# Altium footprint library PcbLib1.PcbLib: 32 footprints (part 2 of 2)
Each footprint in its own frame and in the unit in brackets; x right, y up, seen from the top. Pads: shape width x height; smd on the part's side, far side on the other; paste and mask are expansions set on the pad; w line width, h text height; cw(c..) or ccw(c..) is an arc to the next point about the centre after c.
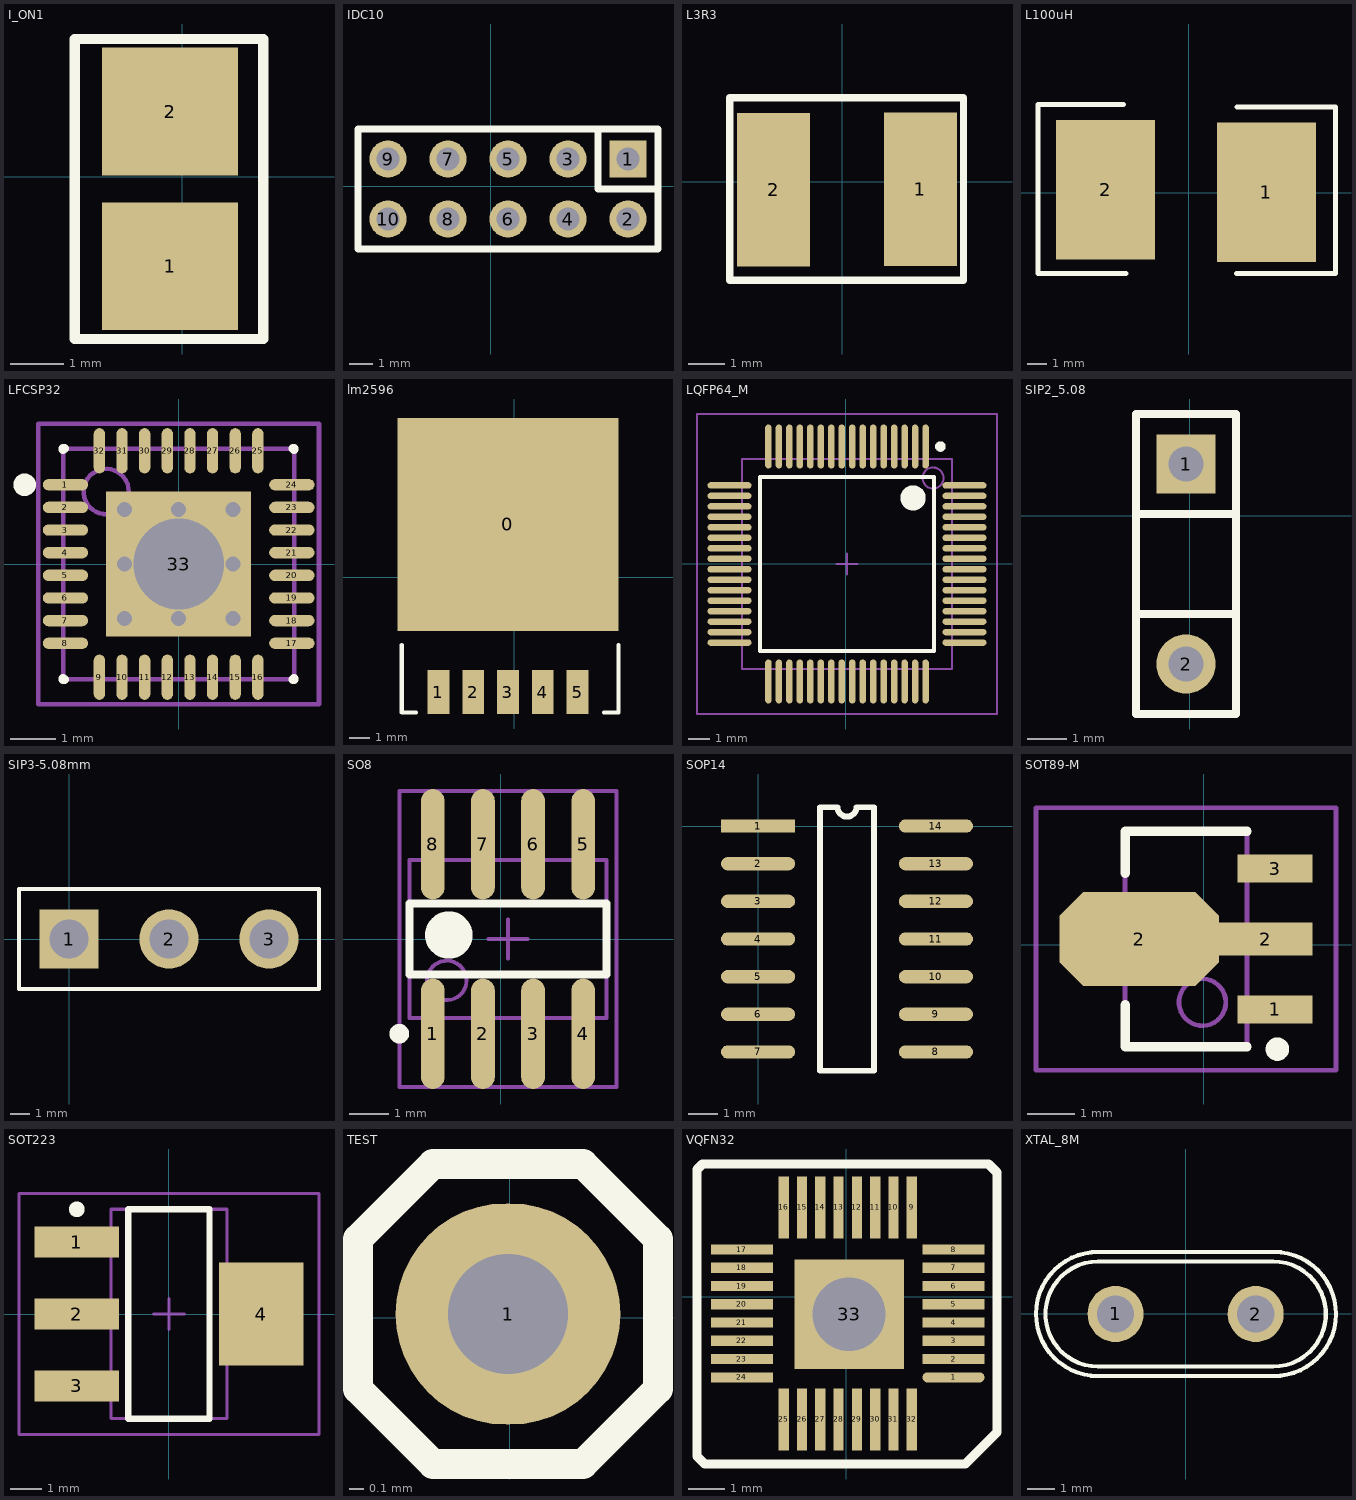
[diagram p1: the footprints below, top view; thin cyan lines are the x and y axes]

## I_ON1 [mil]
pads (2):
  rect 101.26x95 smd: 1(-9.23,-66.67) 2(-9.23,48.29)
Top Overlay:
  lines w7.8: -80,-120.77 -80,102.23 60,102.23 60,-120.77 -80,-120.77

## IDC10 [mil]
pads (10):
  rect 62x62 hole 38: 1(229,45)
  round 62 hole 38: 2(229,-55) 3(129,45) 4(129,-55) 5(29,45) 6(29,-55) 7(-71,45) 8(-71,-55) 9(-171,45) 10(-171,-55)
Top Overlay:
  lines w12: 179,95 179,-5 279,-5 ; -221,-105 -221,95 279,95 279,-105 -221,-105

## L3R3 [mm]
pads (2):
  rect 2x4.2 smd: 1(2.142,-0.213) 2(-1.878,-0.223)
Top Overlay:
  lines w0.2: -3.078,-2.703 -3.078,2.297 3.322,2.297 3.322,-0.203 3.322,-2.703 -3.078,-2.703

## L100uH [mm]
pads (2):
  rect 5x7 smd: 1(3.912,0.025) 2(-4.184,0.152)
Top Overlay:
  lines w0.254: -3.277,4.445 -7.595,4.445 -7.595,-4.064 -3.15,-4.064 ; 2.413,-4.064 7.391,-4.064 7.391,4.318 2.438,4.318

## LFCSP32 [mm] "QFN, 32-Leads, Body 5.1x5.1mm (max), Pitch 0.50mm, IPC Medium Density"
height 0.75
pads (33):
  oval 1x0.25 smd: 1(-2.5,1.75) 2(-2.5,1.25) 3(-2.5,0.75) 4(-2.5,0.25) 5(-2.5,-0.25) 6(-2.5,-0.75) 7(-2.5,-1.25) 8(-2.5,-1.75) 17(2.5,-1.75) 18(2.5,-1.25) 19(2.5,-0.75) 20(2.5,-0.25) 21(2.5,0.25) 22(2.5,0.75) 23(2.5,1.25) 24(2.5,1.75)
  oval 0.25x1 smd: 9(-1.75,-2.5) 10(-1.25,-2.5) 11(-0.75,-2.5) 12(-0.25,-2.5) 13(0.25,-2.5) 14(0.75,-2.5) 15(1.25,-2.5) 16(1.75,-2.5) 25(1.75,2.5) 26(1.25,2.5) 27(0.75,2.5) 28(0.25,2.5) 29(-0.25,2.5) 30(-0.75,2.5) 31(-1.25,2.5) 32(-1.75,2.5)
  rect 3.2x3.2 smd: 33(0,0)
via 1.2,-1.2 diameter 0.66 hole 0.33
via 0,-1.2 diameter 0.66 hole 0.33
via -1.2,-1.2 diameter 0.66 hole 0.33
via 1.2,0 diameter 0.66 hole 0.33
via 0,0 diameter 3 hole 2
via -1.2,0 diameter 0.66 hole 0.33
via 1.2,1.2 diameter 0.66 hole 0.33
via 0,1.2 diameter 0.66 hole 0.33
via -1.2,1.2 diameter 0.66 hole 0.33
Top Overlay:
  circle w0.25: c-3.4,1.75 r0.125
  lines w0.2: -2.55,-2.525 -2.55,-2.55 -2.525,-2.55 ; -2.55,2.525 -2.55,2.55 -2.525,2.55 ; 2.525,-2.55 2.55,-2.55 2.55,-2.525 ; 2.525,2.55 2.55,2.55 2.55,2.525
Mechanical 13:
  circle w0.1: c-1.6,1.6 r0.5
  lines w0.1: -2.55,-2.55 2.55,-2.55 2.55,2.55 -2.55,2.55 -2.55,-2.55
Mechanical 15:
  lines w0.1: -0.5,0 0.5,0 ; 0,-0.5 0,0.5 ; -3.1,-3.1 3.1,-3.1 3.1,3.1 -3.1,3.1 -3.1,-3.1
3D body: height 0.75, standoff 0.03, extent -2.55,-2.55 2.55,2.55

## lm2596 [mm]
pads (6):
  rect 10.8x10.41 smd: 0(-0.301,2.587)
  rect 1.07x2.15 smd: 1(-3.701,-5.613) 2(-2.001,-5.613) 3(-0.301,-5.613) 4(1.399,-5.613) 5(3.099,-5.613)
Top Overlay:
  lines w0.203: -5.501,-3.313 -5.501,-6.613 -4.801,-6.613 ; 4.399,-6.613 5.099,-6.613 5.099,-3.313

## LQFP64_M [mm]
pads (64):
  oval 0.3x2.1 smd: 1(3.81,5.588) 2(3.31,5.588) 3(2.81,5.588) 4(2.31,5.588) 5(1.81,5.588) 6(1.31,5.588) 7(0.81,5.588) 8(0.31,5.588) 9(-0.19,5.588) 10(-0.69,5.588) 11(-1.19,5.588) 12(-1.69,5.588) 13(-2.19,5.588) 14(-2.69,5.588) 15(-3.19,5.588) 16(-3.69,5.588) 33(-3.69,-5.612) 34(-3.19,-5.612) 35(-2.69,-5.612) 36(-2.19,-5.612) 37(-1.69,-5.612) 38(-1.19,-5.612) 39(-0.69,-5.612) 40(-0.19,-5.612) 41(0.31,-5.612) 42(0.81,-5.612) 43(1.31,-5.612) 44(1.81,-5.612) 45(2.31,-5.612) 46(2.81,-5.612) 47(3.31,-5.612) 48(3.81,-5.612)
  oval 2.1x0.3 smd: 17(-5.54,3.738) 18(-5.54,3.238) 19(-5.54,2.738) 20(-5.54,2.238) 21(-5.54,1.738) 22(-5.54,1.238) 23(-5.54,0.738) 24(-5.54,0.238) 25(-5.54,-0.262) 26(-5.54,-0.762) 27(-5.54,-1.262) 28(-5.54,-1.762) 29(-5.54,-2.262) 30(-5.54,-2.762) 31(-5.54,-3.262) 32(-5.54,-3.762) 49(5.66,-3.762) 50(5.66,-3.262) 51(5.66,-2.762) 52(5.66,-2.262) 53(5.66,-1.762) 54(5.66,-1.262) 55(5.66,-0.762) 56(5.66,-0.262) 57(5.66,0.238) 58(5.66,0.738) 59(5.66,1.238) 60(5.66,1.738) 61(5.66,2.238) 62(5.66,2.738) 63(5.66,3.238) 64(5.66,3.738)
Top Overlay:
  circle w0.6: c3.21,3.138 r0.3
  circle w0.25: c4.51,5.588 r0.125
  lines w0.2: -4.09,-4.162 -4.09,4.138 4.21,4.138 4.21,-4.162 -4.09,-4.162
Mechanical 13:
  circle w0.1: c4.16,4.088 r0.5
  lines w0.1: -4.94,-5.012 -4.94,4.988 5.06,4.988 5.06,-5.012 -4.94,-5.012
Mechanical 15:
  lines w0.1: -0.44,-0.012 0.56,-0.012 ; 0.06,-0.512 0.06,0.488 ; -7.09,-7.162 -7.09,7.138 7.21,7.138 7.21,-7.162 -7.09,-7.162

## SIP2_5.08 [mm]
pads (2):
  rect 1.5x1.5 hole 0.9: 1(-0.1,1.32)
  round 1.5 hole 0.9: 2(-0.1,-3.76)
Top Overlay:
  lines w0.2: -1.37,-5.03 1.17,-5.03 1.17,0.05 -1.37,0.05 -1.37,-5.03 ; -1.37,-2.49 1.17,-2.49 1.17,2.59 -1.37,2.59 -1.37,-2.49

## SIP3-5.08mm [mm]
pads (3):
  rect 3x3 hole 2: 1(0,0)
  round 3 hole 2: 2(5.08,0) 3(10.16,0)
Top Overlay:
  lines w0.2: -1.27,-1.27 -1.27,1.27
  lines w0.203: -2.54,-2.54 -2.54,2.54 12.7,2.54 12.7,-2.54 -2.54,-2.54

## SO8 [mm]
pads (8):
  oval 0.6x2.8 smd: 1(-1.727,-2.4) 2(-0.457,-2.4) 3(0.813,-2.4) 4(2.083,-2.4) 5(2.083,2.4) 6(0.813,2.4) 7(-0.457,2.4) 8(-1.727,2.4)
Top Overlay:
  circle w0.6: c-1.322,0.1 r0.3
  circle w0.25: c-2.577,-2.4 r0.125
  lines w0.2: -2.322,-0.9 -2.322,0.9 2.678,0.9 2.678,-0.9 -2.322,-0.9
Mechanical 13:
  circle w0.1: c-1.372,-1.05 r0.5
  lines w0.1: -2.322,-2 -2.322,2 2.678,2 2.678,-2 -2.322,-2
Mechanical 15:
  lines w0.1: -0.322,0 0.678,0 ; 0.178,-0.5 0.178,0.5 ; -2.572,-3.75 -2.572,3.75 2.928,3.75 2.928,-3.75 -2.572,-3.75
3D body: height 1.7, standoff 0.17, extent -2.322,-2 2.678,2

## SOP14 [mm]
pads (14):
  rect 2.5x0.45 smd: 1(0,0)
  oval 2.5x0.45 smd: 2(0,-1.27) 3(0,-2.54) 4(0,-3.81) 5(0,-5.08) 6(0,-6.35) 7(0,-7.62) 8(6,-7.62) 9(6,-6.35) 10(6,-5.08) 11(6,-3.81) 12(6,-2.54) 13(6,-1.27) 14(6,0)
Top Overlay:
  lines w0.2: 2.085,-8.255 3.915,-8.255 3.915,0.635 3.317,0.635 cw(c3,0.635) 2.682,0.635 2.085,0.635 2.085,-8.255

## SOT89-M [mm]
pads (4):
  rect 1.6x0.6 smd: 1(1.519,-1.373) 3(1.519,1.627)
  oct 3.4x2 smd: 2(-1.381,0.127)
  rect 2x0.7 smd: 2(1.319,0.127)
Top Overlay:
  circle w0.25: c1.569,-2.223 r0.125
  lines w0.2: -1.681,-1.273 -1.681,-2.173 0.919,-2.173 ; -1.681,1.527 -1.681,2.427 0.919,2.427
Mechanical 13:
  circle w0.1: c-0.031,-1.223 r0.5
  lines w0.1: -1.681,-2.173 -1.681,2.427 0.919,2.427 0.919,-2.173 -1.681,-2.173
Mechanical 15:
  lines w0.1: -0.881,0.127 0.119,0.127 ; -0.381,-0.373 -0.381,0.627 ; -3.581,-2.673 -3.581,2.927 2.819,2.927 2.819,-2.673 -3.581,-2.673
3D body: height 1.6, standoff 0, extent -1.681,-2.173 0.919,2.427

## SOT223 [mm]
pads (4):
  rect 2.7x1 smd: 1(-2.95,2.3) 2(-2.95,0) 3(-2.95,-2.3)
  rect 2.7x3.3 smd: 4(2.95,0)
Top Overlay:
  circle w0.25: c-2.95,3.35 r0.125
  lines w0.2: -1.3,-3.35 1.3,-3.35 1.3,3.35 -1.3,3.35 -1.3,-3.35
Mechanical 13:
  lines w0.1: -1.85,-3.35 1.85,-3.35 1.85,3.35 -1.85,3.35 -1.85,-3.35
Mechanical 15:
  lines w0.1: -0.5,0 0.5,0 ; 0,-0.5 0,0.5 ; -4.8,-3.85 4.8,-3.85 4.8,3.85 -4.8,3.85 -4.8,-3.85
3D body: height 1.7, standoff 0, extent -1.85,-3.35 1.85,3.35

## TEST [mil]
pads (1):
  oval 60x59.06 hole 32: 1(-0.52,1.03)
Top Overlay:
  lines w8: -40.52,-18.97 -40.52,21.03 -20.52,41.03 19.48,41.03 39.48,21.03 39.48,-18.97 19.48,-38.97 -20.52,-38.97 -40.52,-18.97

## VQFN32 [mm]
pads (33):
  oval 1.7x0.28 smd: 1(2.94,-2.203)
  rect 1.7x0.28 smd: 2(2.94,-1.703) 3(2.94,-1.203) 4(2.94,-0.703) 5(2.94,-0.203) 6(2.94,0.297) 7(2.94,0.797) 8(2.94,1.297) 17(-2.85,1.297) 18(-2.85,0.797) 19(-2.85,0.297) 20(-2.85,-0.203) 21(-2.85,-0.703) 22(-2.85,-1.203) 23(-2.85,-1.703) 24(-2.85,-2.203)
  rect 0.28x1.7 smd: 9(1.795,2.447) 10(1.295,2.447) 11(0.795,2.447) 12(0.295,2.447) 13(-0.205,2.447) 14(-0.705,2.447) 15(-1.205,2.447) 16(-1.705,2.447) 25(-1.705,-3.353) 26(-1.205,-3.353) 27(-0.705,-3.353) 28(-0.205,-3.353) 29(0.295,-3.353) 30(0.795,-3.353) 31(1.295,-3.353) 32(1.795,-3.353)
  rect 3x3 hole 2: 33(0.082,-0.475)
Top Overlay:
  lines w0.254: 4.13,1.487 4.13,3.407 3.9,3.637 -3.93,3.637 -4.08,3.487 -4.08,-4.363 -3.87,-4.573 3.26,-4.573 4.13,-3.703 4.13,2.507

## XTAL_8M [mil]
pads (2):
  round 80 hole 53: 1(-100.02,-0.17) 2(99.98,-0.17)
Top Overlay:
  lines w6: 125.97,88.41 -124.09,88.41 ccw(c-125.02,-0.17) -125.02,-88.75 125.06,-88.74 ccw(c125.98,-0.17) 125.98,88.42 ; -125.02,-75.17 cw(c-125.02,-0.17) -125.02,74.83 124.98,74.83 cw(c124.98,-0.17) 124.98,-75.17 -125.02,-75.17